# Altium footprint library C 0805(2012)x1.25.PcbLib: 1 footprints
Each footprint in its own frame and in the unit in brackets; x right, y up, seen from the top. Pads: shape width x height; smd on the part's side, far side on the other; paste and mask are expansions set on the pad; w line width, h text height; cw(c..) or ccw(c..) is an arc to the next point about the centre after c.
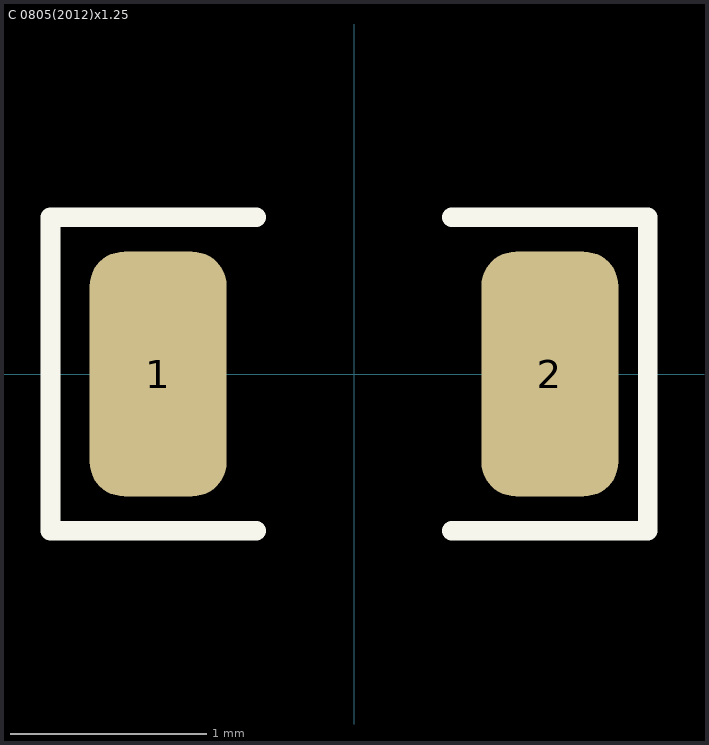
[diagram p0: the footprint, top view; thin cyan lines are the x and y axes]

## C 0805(2012)x1.25 [mm]
height 1.25
pads (2):
  rrect50% 0.7x1.25 smd: 1(-1,0) 2(1,0)
Top Overlay:
  lines w0.1: -0.5,-0.8 -1.55,-0.8 -1.55,0.8 -0.5,0.8 ; 0.5,-0.8 1.5,-0.8 1.5,0.8 0.5,0.8
3D body "Cap 0805(2012)x125N.STEP": height 1.26, standoff 0, extent -1,-0.625 1,0.625